# Altium schematic symbol library STM8S003F3.SchLib: 1 symbol
Pins are listed as number, name and electrical type; pins without a type are passive.

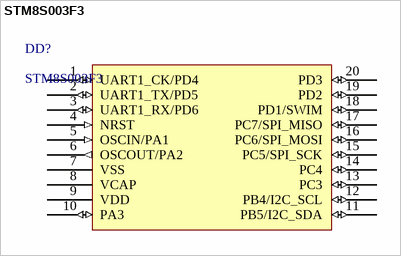
[diagram p0: symbol STM8S003F3]

## STM8S003F3
designator DD?
pins: 1 UART1_CK/PD4 (io), 2 UART1_TX/PD5 (io), 3 UART1_RX/PD6 (io), 4 NRST (in), 5 OSCIN/PA1 (in), 6 OSCOUT/PA2 (out), 7 VSS (power), 8 VCAP (power), 9 VDD (power), 10 PA3 (io), 11 PB5/I2C_SDA (io), 12 PB4/I2C_SCL (io), 13 PC3 (io), 14 PC4 (io), 15 PC5/SPI_SCK (io), 16 PC6/SPI_MOSI (io), 17 PC7/SPI_MISO (io), 18 PD1/SWIM (io), 19 PD2 (io), 20 PD3 (io)